# Altium schematic symbol library RF_GSM.SchLib: 23 symbols
Pins are listed as number, name and electrical type; pins without a type are passive.

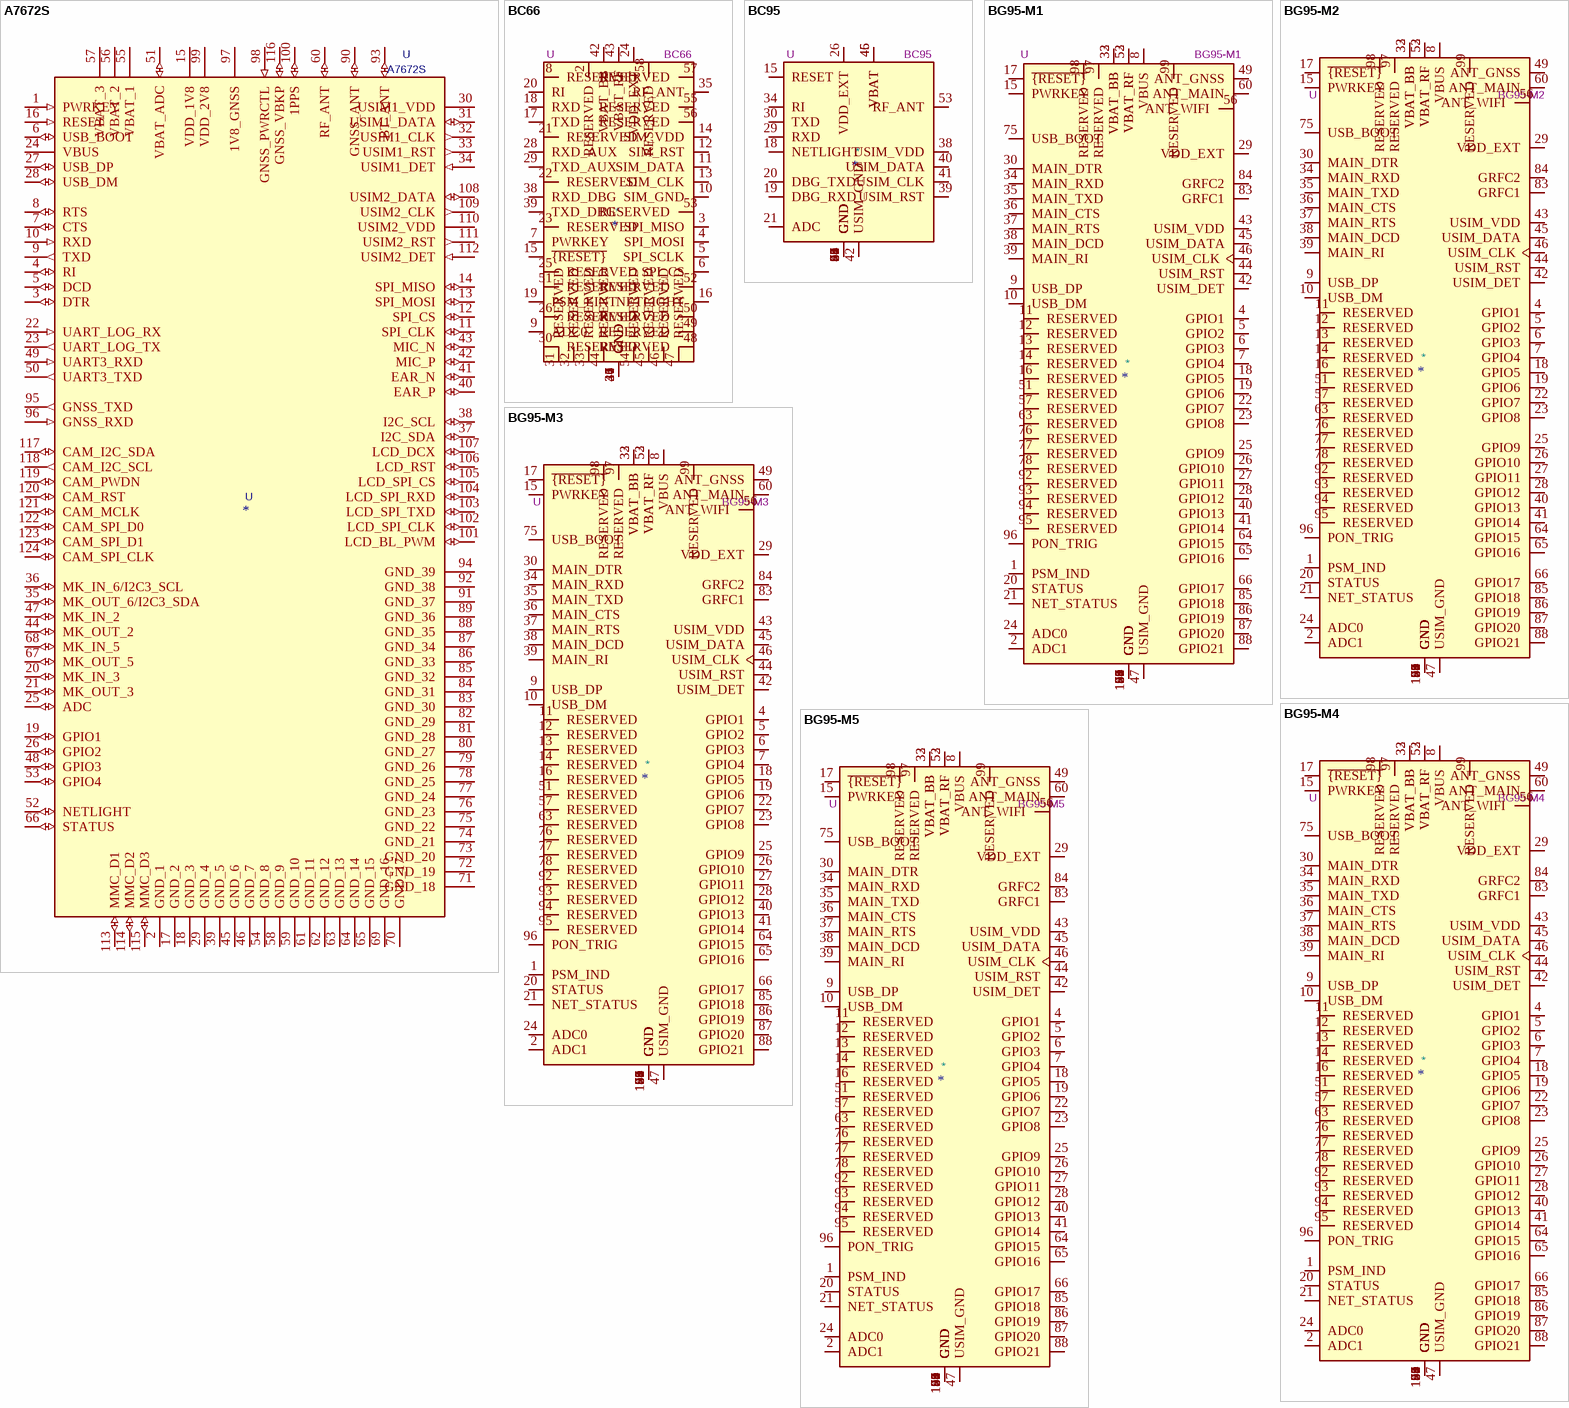
[diagram p0: symbols A7672S to BG95-M5]

## A7672S
designator U  value A7672S  Reference: U
Footprint: A7672S:A7672S
footprint SIMCOM_A7672S
pins: 1 PWRKEY (in), 2 GND_1 (power), 3 DTR (io), 4 RI (io), 5 DCD (io), 6 USB_BOOT (io), 7 CTS (io), 8 RTS (io), 9 TXD (out), 10 RXD (in), 11 SPI_CLK (io), 12 SPI_CS (io), 13 SPI_MOSI (io), 14 SPI_MISO (io), 15 VDD_1V8 (power), 16 RESET (in), 17 GND_2 (power), 18 GND_3 (power), 19 GPIO1 (io), 20 MK_IN_3 (io), 21 MK_OUT_3 (io), 22 UART_LOG_RX (in), 23 UART_LOG_TX (out), 24 VBUS (power), 25 ADC (io), 26 GPIO2 (io), 27 USB_DP (io), 28 USB_DM (io), 29 GND_4 (power), 30 USIM1_VDD (power), 31 USIM1_DATA (io), 32 USIM1_CLK (out), 33 USIM1_RST (out), 34 USIM1_DET (in), 35 MK_OUT_6/I2C3_SDA (io), 36 MK_IN_6/I2C3_SCL (io), 37 I2C_SDA (io), 38 I2C_SCL (io), 39 GND_5 (power), 40 EAR_P (io), 41 EAR_N (io), 42 MIC_P (io), 43 MIC_N (io), 44 MK_OUT_2 (io), 45 GND_6 (power), 46 GND_7 (power), 47 MK_IN_2 (io), 48 GPIO3 (io), 49 UART3_RXD (in), 50 UART3_TXD (out), 51 VBAT_ADC (io), 52 NETLIGHT (io), 53 GPIO4 (io), 54 GND_8 (power), 55 VBAT_1 (power), 56 VBAT_2 (power), 57 VBAT_3 (power), 58 GND_9 (power), 59 GND_10 (power), 60 RF_ANT (io), 61 GND_11 (power), 62 GND_12 (power), 63 GND_13 (power), 64 GND_14 (power), 65 GND_15 (power), 66 STATUS (io), 67 MK_OUT_5 (io), 68 MK_IN_5 (io), 69 GND_16 (power), 70 GND_17 (power), 71 GND_18 (power), 72 GND_19 (power), 73 GND_20 (power), 74 GND_21 (power), 75 GND_22 (power), 76 GND_23 (power), 77 GND_24 (power), 78 GND_25 (power), 79 GND_26 (power), 80 GND_27 (power), 81 GND_28 (power), 82 GND_29 (power), 83 GND_30 (power), 84 GND_31 (power), 85 GND_32 (power), 86 GND_33 (power), 87 GND_34 (power), 88 GND_35 (power), 89 GND_36 (power), 90 GNSS_ANT (io), 91 GND_37 (power), 92 GND_38 (power), 93 BT_ANT (io), 94 GND_39 (power), 95 GNSS_TXD (out), 96 GNSS_RXD (in), 97 1V8_GNSS (power), 98 GNSS_PWRCTL (in), 99 VDD_2V8 (power), 100 1PPS (io), 101 LCD_BL_PWM (io), 102 LCD_SPI_CLK (io), 103 LCD_SPI_TXD (io), 104 LCD_SPI_RXD (io), 105 LCD_SPI_CS (io), 106 LCD_RST (io), 107 LCD_DCX (io), 108 USIM2_DATA (io), 109 USIM2_CLK (out), 110 USIM2_VDD (power), 111 USIM2_RST (out), 112 USIM2_DET (in), 113 MMC_D1 (io), 114 MMC_D2 (io), 115 MMC_D3 (io), 116 GNSS_VBKP (io), 117 CAM_I2C_SDA (io), 118 CAM_I2C_SCL (out), 119 CAM_PWDN (io), 120 CAM_RST (io), 121 CAM_MCLK (io), 122 CAM_SPI_D0 (io), 123 CAM_SPI_D1 (io), 124 CAM_SPI_CLK (io)

## BC66
designator *  value BC66  Reference: U
Quectel NB-IoT Global, AT Command Set; ki_keywords: NB-IoT Data SMS; ki_fp_filters: Quectel*BC66*; Footprint: RF_GSM:Quectel_BC66; Datasheet: https://www.quectel.com/UploadImage/Downlad/Quectel_BC66_Hardware_Design_V1.1.pdf; Description_: Quectel NB-IoT Global, AT Command Set
pins: 1 GND, 2 RESERVED, 3 SPI_MISO, 4 SPI_MOSI, 5 SPI_SCLK, 6 SPI_CS, 7 PWRKEY, 8 RESERVED, 9 ADC0, 10 SIM_GND, 11 SIM_DATA, 12 SIM_RST, 13 SIM_CLK, 14 SIM_VDD, 15 ~{{RESET}}, 16 NETLIGHT, 17 TXD, 18 RXD, 19 PSM_EINT, 20 RI, 21 RESERVED, 22 RESERVED, 23 RESERVED, 24 VDD_EXT, 25 RESERVED, 26 RESERVED, 27 GND, 28 RXD_AUX, 29 TXD_AUX, 30 RESERVED, 31 RESERVED, 32 RESERVED, 33 RESERVED, 34 GND, 35 RF_ANT, 36 GND, 37 GND, 38 RXD_DBG, 39 TXD_DBG, 40 GND, 41 GND, 42 VBAT_BB, 43 VBAT_RF, 44 RESERVED, 45 RESERVED, 46 RESERVED, 47 RESERVED, 48 RESERVED, 49 RESERVED, 50 RESERVED, 51 RESERVED, 52 RESERVED, 53 RESERVED, 54 RESERVED, 55 RESERVED, 56 RESERVED, 57 RESERVED, 58 RESERVED

## BC95
designator *  value BC95  Reference: U
NB-IoT, GSM Quad-Band Communication Module, GPRS, Audio Engine, AT Command Set; ki_keywords: NB-IoT GSM GPRS Quad-Band SMS; ki_fp_filters: Quectel?BC95*; Footprint: RF_GSM:Quectel_BC95; Datasheet: https://www.quectel.com/UploadImage/Downlad/Quectel_BC95_Hardware_Design_V1.3.pdf; Description_: NB-IoT, GSM Quad-Band Communication Module, GPRS, Audio Engine, AT Command Set
pins: 2 GND, 15 RESET, 18 NETLIGHT, 19 DBG_RXD, 20 DBG_TXD, 21 ADC, 26 VDD_EXT, 29 RXD, 30 TXD, 34 RI, 38 USIM_VDD, 39 USIM_RST, 40 USIM_DATA, 41 USIM_CLK, 42 USIM_GND, 43 GND, 45 VBAT, 46 VBAT, 47 GND, 48 GND, 51 GND, 52 GND, 53 RF_ANT, 54 GND, 59 GND, 60 GND, 61 GND, 62 GND, 63 GND, 64 GND, 65 GND, 66 GND, 71 GND, 72 GND, 73 GND, 74 GND, 81 GND, 82 GND, 83 GND, 92 GND, 93 GND, 94 GND

## BG95-M1
designator *  value BG95-M1  Reference: U
NB-IoT, Cat M1 Communication Module, AT Command Set; ki_keywords: NB-IoT Cat M1 GNSS; ki_fp_filters: Quectel?BG95*; Footprint: RF_GSM:Quectel_BG95; Datasheet: https://images.quectel.com/python/sites/2/2023/05/Quectel_BG95_Series_QuecOpen_Hardware_Design_V1.3.pdf; Description_: NB-IoT, Cat M1 Communication Module, AT Command Set
pins: 1 PSM_IND, 2 ADC1, 3 GND, 4 GPIO1, 5 GPIO2, 6 GPIO3, 7 GPIO4, 8 VBUS, 9 USB_DP, 10 USB_DM, 11 RESERVED, 12 RESERVED, 13 RESERVED, 14 RESERVED, 15 PWRKEY, 16 RESERVED, 17 ~{{RESET}}, 18 GPIO5, 19 GPIO6, 20 STATUS, 21 NET_STATUS, 22 GPIO7, 23 GPIO8, 24 ADC0, 25 GPIO9, 26 GPIO10, 27 GPIO11, 28 GPIO12, 29 VDD_EXT, 30 MAIN_DTR, 31 GND, 32 VBAT_BB, 33 VBAT_BB, 34 MAIN_RXD, 35 MAIN_TXD, 36 MAIN_CTS, 37 MAIN_RTS, 38 MAIN_DCD, 39 MAIN_RI, 40 GPIO13, 41 GPIO14, 42 USIM_DET, 43 USIM_VDD, 44 USIM_RST, 45 USIM_DATA, 46 USIM_CLK, 47 USIM_GND, 48 GND, 49 ANT_GNSS, 50 GND, 51 RESERVED, 52 VBAT_RF, 53 VBAT_RF, 54 GND, 55 GND, 56 ANT_WIFI, 57 RESERVED, 58 GND, 59 GND, 60 ANT_MAIN, 61 GND, 62 GND, 63 RESERVED, 64 GPIO15, 65 GPIO16, 66 GPIO17, 67 GND, 68 GND, 69 GND, 70 GND, 71 GND, 72 GND, 73 GND, 74 GND, 75 USB_BOOT, 76 RESERVED, 77 RESERVED, 78 RESERVED, 79 GND, 80 GND, 81 GND, 82 GND, 83 GRFC1, 84 GRFC2, 85 GPIO18, 86 GPIO19, 87 GPIO20, 88 GPIO21, 89 GND, 90 GND, 91 GND, 92 RESERVED, 93 RESERVED, 94 RESERVED, 95 RESERVED, 96 PON_TRIG, 97 RESERVED, 98 RESERVED, 99 RESERVED, 100 GND, 101 GND, 102 GND

## BG95-M2
designator *  value BG95-M2  Reference: U
NB-IoT, Cat M1 Cat NB2 Communication Module, AT Command Set; ki_keywords: NB-IoT Cat M1 NB2 GNSS; ki_fp_filters: Quectel?BG95*; Footprint: RF_GSM:Quectel_BG95; Datasheet: https://images.quectel.com/python/sites/2/2023/05/Quectel_BG95_Series_QuecOpen_Hardware_Design_V1.3.pdf; Description_: NB-IoT, Cat M1 Cat NB2 Communication Module, AT Command Set
pins: 1 PSM_IND, 2 ADC1, 3 GND, 4 GPIO1, 5 GPIO2, 6 GPIO3, 7 GPIO4, 8 VBUS, 9 USB_DP, 10 USB_DM, 11 RESERVED, 12 RESERVED, 13 RESERVED, 14 RESERVED, 15 PWRKEY, 16 RESERVED, 17 ~{{RESET}}, 18 GPIO5, 19 GPIO6, 20 STATUS, 21 NET_STATUS, 22 GPIO7, 23 GPIO8, 24 ADC0, 25 GPIO9, 26 GPIO10, 27 GPIO11, 28 GPIO12, 29 VDD_EXT, 30 MAIN_DTR, 31 GND, 32 VBAT_BB, 33 VBAT_BB, 34 MAIN_RXD, 35 MAIN_TXD, 36 MAIN_CTS, 37 MAIN_RTS, 38 MAIN_DCD, 39 MAIN_RI, 40 GPIO13, 41 GPIO14, 42 USIM_DET, 43 USIM_VDD, 44 USIM_RST, 45 USIM_DATA, 46 USIM_CLK, 47 USIM_GND, 48 GND, 49 ANT_GNSS, 50 GND, 51 RESERVED, 52 VBAT_RF, 53 VBAT_RF, 54 GND, 55 GND, 56 ANT_WIFI, 57 RESERVED, 58 GND, 59 GND, 60 ANT_MAIN, 61 GND, 62 GND, 63 RESERVED, 64 GPIO15, 65 GPIO16, 66 GPIO17, 67 GND, 68 GND, 69 GND, 70 GND, 71 GND, 72 GND, 73 GND, 74 GND, 75 USB_BOOT, 76 RESERVED, 77 RESERVED, 78 RESERVED, 79 GND, 80 GND, 81 GND, 82 GND, 83 GRFC1, 84 GRFC2, 85 GPIO18, 86 GPIO19, 87 GPIO20, 88 GPIO21, 89 GND, 90 GND, 91 GND, 92 RESERVED, 93 RESERVED, 94 RESERVED, 95 RESERVED, 96 PON_TRIG, 97 RESERVED, 98 RESERVED, 99 RESERVED, 100 GND, 101 GND, 102 GND

## BG95-M3
designator *  value BG95-M3  Reference: U
NB-IoT, Cat M1 Cat NB2 EGPRS Communication Module, AT Command Set; ki_keywords: NB-IoT Cat M1 NB2 EGPRS GNSS; ki_fp_filters: Quectel?BG95*; Footprint: RF_GSM:Quectel_BG95; Datasheet: https://images.quectel.com/python/sites/2/2023/05/Quectel_BG95_Series_QuecOpen_Hardware_Design_V1.3.pdf; Description_: NB-IoT, Cat M1 Cat NB2 EGPRS Communication Module, AT Command Set
pins: 1 PSM_IND, 2 ADC1, 3 GND, 4 GPIO1, 5 GPIO2, 6 GPIO3, 7 GPIO4, 8 VBUS, 9 USB_DP, 10 USB_DM, 11 RESERVED, 12 RESERVED, 13 RESERVED, 14 RESERVED, 15 PWRKEY, 16 RESERVED, 17 ~{{RESET}}, 18 GPIO5, 19 GPIO6, 20 STATUS, 21 NET_STATUS, 22 GPIO7, 23 GPIO8, 24 ADC0, 25 GPIO9, 26 GPIO10, 27 GPIO11, 28 GPIO12, 29 VDD_EXT, 30 MAIN_DTR, 31 GND, 32 VBAT_BB, 33 VBAT_BB, 34 MAIN_RXD, 35 MAIN_TXD, 36 MAIN_CTS, 37 MAIN_RTS, 38 MAIN_DCD, 39 MAIN_RI, 40 GPIO13, 41 GPIO14, 42 USIM_DET, 43 USIM_VDD, 44 USIM_RST, 45 USIM_DATA, 46 USIM_CLK, 47 USIM_GND, 48 GND, 49 ANT_GNSS, 50 GND, 51 RESERVED, 52 VBAT_RF, 53 VBAT_RF, 54 GND, 55 GND, 56 ANT_WIFI, 57 RESERVED, 58 GND, 59 GND, 60 ANT_MAIN, 61 GND, 62 GND, 63 RESERVED, 64 GPIO15, 65 GPIO16, 66 GPIO17, 67 GND, 68 GND, 69 GND, 70 GND, 71 GND, 72 GND, 73 GND, 74 GND, 75 USB_BOOT, 76 RESERVED, 77 RESERVED, 78 RESERVED, 79 GND, 80 GND, 81 GND, 82 GND, 83 GRFC1, 84 GRFC2, 85 GPIO18, 86 GPIO19, 87 GPIO20, 88 GPIO21, 89 GND, 90 GND, 91 GND, 92 RESERVED, 93 RESERVED, 94 RESERVED, 95 RESERVED, 96 PON_TRIG, 97 RESERVED, 98 RESERVED, 99 RESERVED, 100 GND, 101 GND, 102 GND

## BG95-M4
designator *  value BG95-M4  Reference: U
NB-IoT, Cat M1  Cat NB2 Communication Module, AT Command Set; ki_keywords: NB-IoT Cat M1 NB2 GNSS; ki_fp_filters: Quectel?BG95*; Footprint: RF_GSM:Quectel_BG95; Datasheet: https://images.quectel.com/python/sites/2/2023/05/Quectel_BG95_Series_QuecOpen_Hardware_Design_V1.3.pdf; Description_: NB-IoT, Cat M1  Cat NB2 Communication Module, AT Command Set
pins: 1 PSM_IND, 2 ADC1, 3 GND, 4 GPIO1, 5 GPIO2, 6 GPIO3, 7 GPIO4, 8 VBUS, 9 USB_DP, 10 USB_DM, 11 RESERVED, 12 RESERVED, 13 RESERVED, 14 RESERVED, 15 PWRKEY, 16 RESERVED, 17 ~{{RESET}}, 18 GPIO5, 19 GPIO6, 20 STATUS, 21 NET_STATUS, 22 GPIO7, 23 GPIO8, 24 ADC0, 25 GPIO9, 26 GPIO10, 27 GPIO11, 28 GPIO12, 29 VDD_EXT, 30 MAIN_DTR, 31 GND, 32 VBAT_BB, 33 VBAT_BB, 34 MAIN_RXD, 35 MAIN_TXD, 36 MAIN_CTS, 37 MAIN_RTS, 38 MAIN_DCD, 39 MAIN_RI, 40 GPIO13, 41 GPIO14, 42 USIM_DET, 43 USIM_VDD, 44 USIM_RST, 45 USIM_DATA, 46 USIM_CLK, 47 USIM_GND, 48 GND, 49 ANT_GNSS, 50 GND, 51 RESERVED, 52 VBAT_RF, 53 VBAT_RF, 54 GND, 55 GND, 56 ANT_WIFI, 57 RESERVED, 58 GND, 59 GND, 60 ANT_MAIN, 61 GND, 62 GND, 63 RESERVED, 64 GPIO15, 65 GPIO16, 66 GPIO17, 67 GND, 68 GND, 69 GND, 70 GND, 71 GND, 72 GND, 73 GND, 74 GND, 75 USB_BOOT, 76 RESERVED, 77 RESERVED, 78 RESERVED, 79 GND, 80 GND, 81 GND, 82 GND, 83 GRFC1, 84 GRFC2, 85 GPIO18, 86 GPIO19, 87 GPIO20, 88 GPIO21, 89 GND, 90 GND, 91 GND, 92 RESERVED, 93 RESERVED, 94 RESERVED, 95 RESERVED, 96 PON_TRIG, 97 RESERVED, 98 RESERVED, 99 RESERVED, 100 GND, 101 GND, 102 GND

## BG95-M5
designator *  value BG95-M5  Reference: U
NB-IoT, Cat M1 NB2 EGPRS Communication Module, AT Command Set; ki_keywords: NB-IoT Cat M1 NB2 EGPRS GNSS; ki_fp_filters: Quectel?BG95*; Footprint: RF_GSM:Quectel_BG95; Datasheet: https://images.quectel.com/python/sites/2/2023/05/Quectel_BG95_Series_QuecOpen_Hardware_Design_V1.3.pdf; Description_: NB-IoT, Cat M1 NB2 EGPRS Communication Module, AT Command Set
pins: 1 PSM_IND, 2 ADC1, 3 GND, 4 GPIO1, 5 GPIO2, 6 GPIO3, 7 GPIO4, 8 VBUS, 9 USB_DP, 10 USB_DM, 11 RESERVED, 12 RESERVED, 13 RESERVED, 14 RESERVED, 15 PWRKEY, 16 RESERVED, 17 ~{{RESET}}, 18 GPIO5, 19 GPIO6, 20 STATUS, 21 NET_STATUS, 22 GPIO7, 23 GPIO8, 24 ADC0, 25 GPIO9, 26 GPIO10, 27 GPIO11, 28 GPIO12, 29 VDD_EXT, 30 MAIN_DTR, 31 GND, 32 VBAT_BB, 33 VBAT_BB, 34 MAIN_RXD, 35 MAIN_TXD, 36 MAIN_CTS, 37 MAIN_RTS, 38 MAIN_DCD, 39 MAIN_RI, 40 GPIO13, 41 GPIO14, 42 USIM_DET, 43 USIM_VDD, 44 USIM_RST, 45 USIM_DATA, 46 USIM_CLK, 47 USIM_GND, 48 GND, 49 ANT_GNSS, 50 GND, 51 RESERVED, 52 VBAT_RF, 53 VBAT_RF, 54 GND, 55 GND, 56 ANT_WIFI, 57 RESERVED, 58 GND, 59 GND, 60 ANT_MAIN, 61 GND, 62 GND, 63 RESERVED, 64 GPIO15, 65 GPIO16, 66 GPIO17, 67 GND, 68 GND, 69 GND, 70 GND, 71 GND, 72 GND, 73 GND, 74 GND, 75 USB_BOOT, 76 RESERVED, 77 RESERVED, 78 RESERVED, 79 GND, 80 GND, 81 GND, 82 GND, 83 GRFC1, 84 GRFC2, 85 GPIO18, 86 GPIO19, 87 GPIO20, 88 GPIO21, 89 GND, 90 GND, 91 GND, 92 RESERVED, 93 RESERVED, 94 RESERVED, 95 RESERVED, 96 PON_TRIG, 97 RESERVED, 98 RESERVED, 99 RESERVED, 100 GND, 101 GND, 102 GND

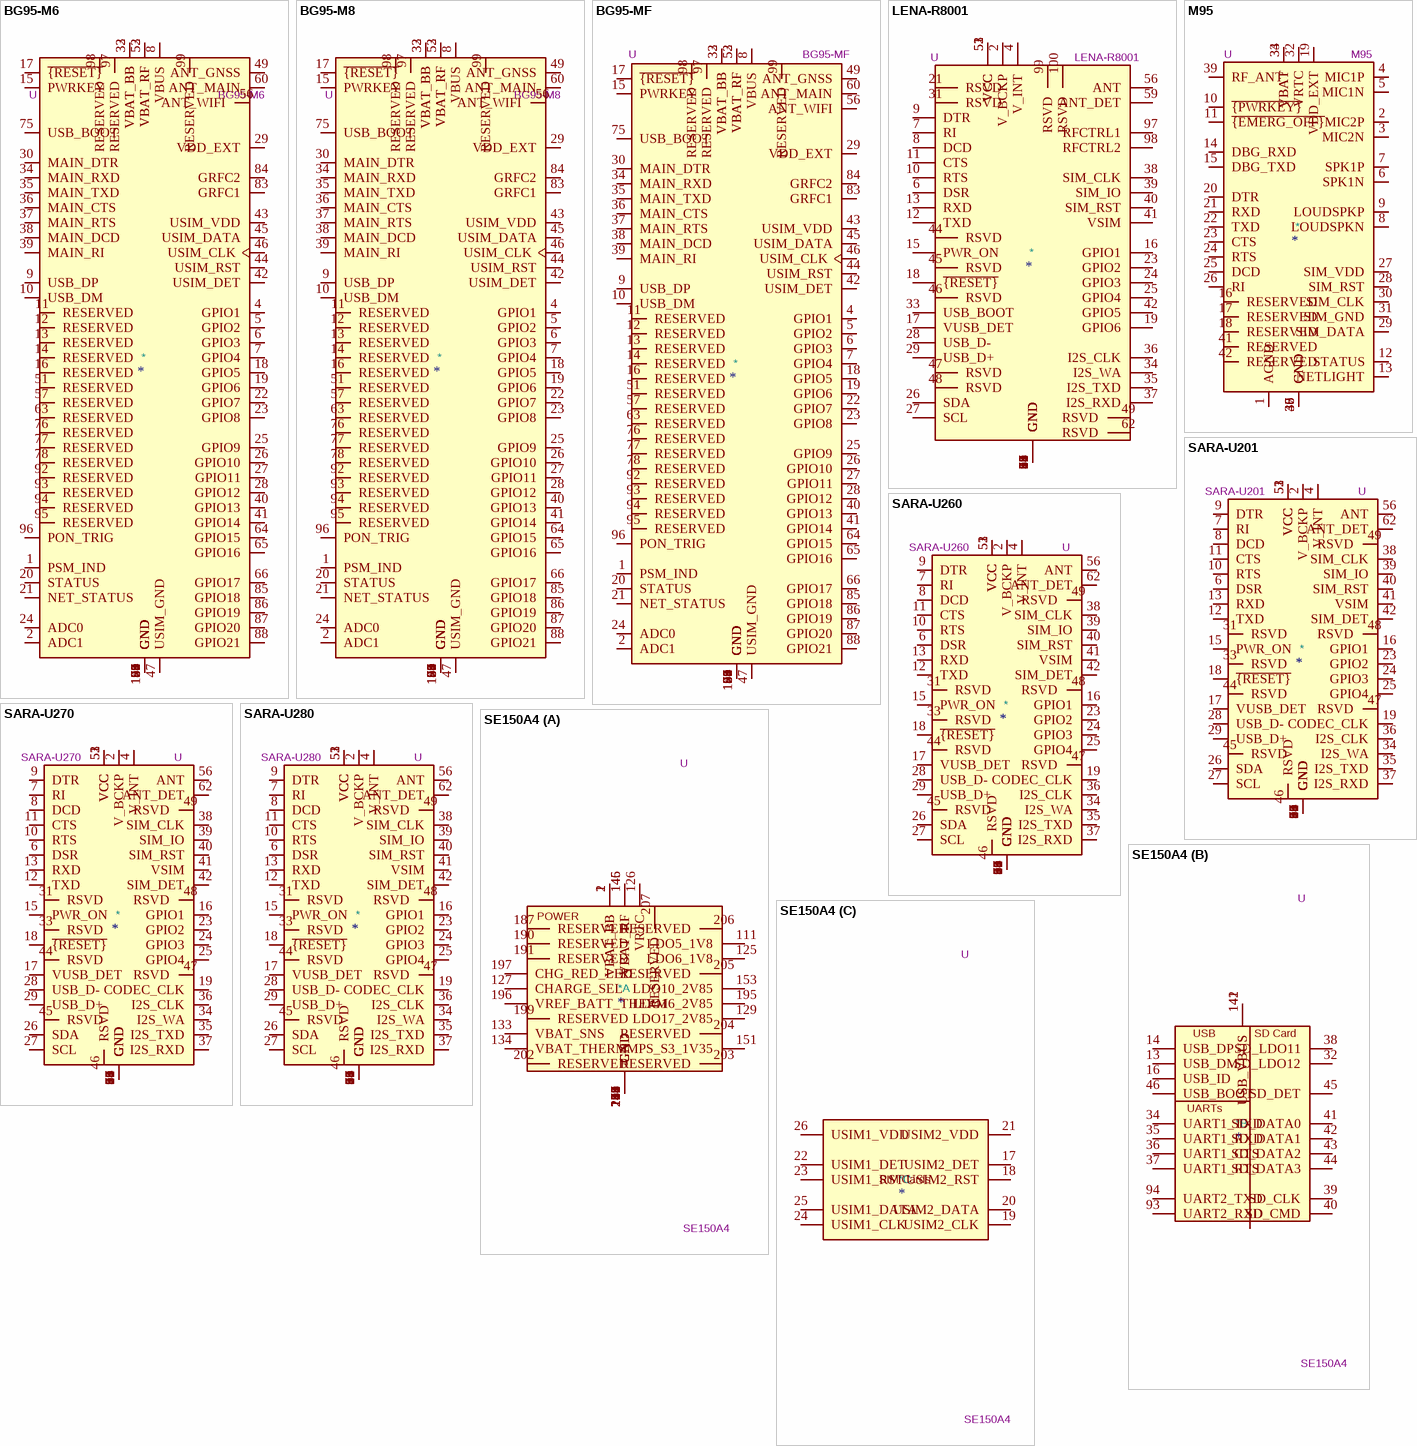
[diagram p1: symbols BG95-M6 to SE150A4]

## BG95-M6
designator *  value BG95-M6  Reference: U
NB-IoT, Cat M1 Cat NB2 Communication Module, AT Command Set; ki_keywords: NB-IoT Cat M1 NB2 GNSS; ki_fp_filters: Quectel?BG95*; Footprint: RF_GSM:Quectel_BG95; Datasheet: https://images.quectel.com/python/sites/2/2023/05/Quectel_BG95_Series_QuecOpen_Hardware_Design_V1.3.pdf; Description_: NB-IoT, Cat M1 Cat NB2 Communication Module, AT Command Set
pins: 1 PSM_IND, 2 ADC1, 3 GND, 4 GPIO1, 5 GPIO2, 6 GPIO3, 7 GPIO4, 8 VBUS, 9 USB_DP, 10 USB_DM, 11 RESERVED, 12 RESERVED, 13 RESERVED, 14 RESERVED, 15 PWRKEY, 16 RESERVED, 17 ~{{RESET}}, 18 GPIO5, 19 GPIO6, 20 STATUS, 21 NET_STATUS, 22 GPIO7, 23 GPIO8, 24 ADC0, 25 GPIO9, 26 GPIO10, 27 GPIO11, 28 GPIO12, 29 VDD_EXT, 30 MAIN_DTR, 31 GND, 32 VBAT_BB, 33 VBAT_BB, 34 MAIN_RXD, 35 MAIN_TXD, 36 MAIN_CTS, 37 MAIN_RTS, 38 MAIN_DCD, 39 MAIN_RI, 40 GPIO13, 41 GPIO14, 42 USIM_DET, 43 USIM_VDD, 44 USIM_RST, 45 USIM_DATA, 46 USIM_CLK, 47 USIM_GND, 48 GND, 49 ANT_GNSS, 50 GND, 51 RESERVED, 52 VBAT_RF, 53 VBAT_RF, 54 GND, 55 GND, 56 ANT_WIFI, 57 RESERVED, 58 GND, 59 GND, 60 ANT_MAIN, 61 GND, 62 GND, 63 RESERVED, 64 GPIO15, 65 GPIO16, 66 GPIO17, 67 GND, 68 GND, 69 GND, 70 GND, 71 GND, 72 GND, 73 GND, 74 GND, 75 USB_BOOT, 76 RESERVED, 77 RESERVED, 78 RESERVED, 79 GND, 80 GND, 81 GND, 82 GND, 83 GRFC1, 84 GRFC2, 85 GPIO18, 86 GPIO19, 87 GPIO20, 88 GPIO21, 89 GND, 90 GND, 91 GND, 92 RESERVED, 93 RESERVED, 94 RESERVED, 95 RESERVED, 96 PON_TRIG, 97 RESERVED, 98 RESERVED, 99 RESERVED, 100 GND, 101 GND, 102 GND

## BG95-M8
designator *  value BG95-M8  Reference: U
NB-IoT, Cat M1 Cat NB2 EGPRS Communication Module, AT Command Set; ki_keywords: NB-IoT Cat M1 NB2 EGPRS GNSS; ki_fp_filters: Quectel?BG95*; Footprint: RF_GSM:Quectel_BG95; Datasheet: https://images.quectel.com/python/sites/2/2023/05/Quectel_BG95_Series_QuecOpen_Hardware_Design_V1.3.pdf; Description_: NB-IoT, Cat M1 Cat NB2 EGPRS Communication Module, AT Command Set
pins: 1 PSM_IND, 2 ADC1, 3 GND, 4 GPIO1, 5 GPIO2, 6 GPIO3, 7 GPIO4, 8 VBUS, 9 USB_DP, 10 USB_DM, 11 RESERVED, 12 RESERVED, 13 RESERVED, 14 RESERVED, 15 PWRKEY, 16 RESERVED, 17 ~{{RESET}}, 18 GPIO5, 19 GPIO6, 20 STATUS, 21 NET_STATUS, 22 GPIO7, 23 GPIO8, 24 ADC0, 25 GPIO9, 26 GPIO10, 27 GPIO11, 28 GPIO12, 29 VDD_EXT, 30 MAIN_DTR, 31 GND, 32 VBAT_BB, 33 VBAT_BB, 34 MAIN_RXD, 35 MAIN_TXD, 36 MAIN_CTS, 37 MAIN_RTS, 38 MAIN_DCD, 39 MAIN_RI, 40 GPIO13, 41 GPIO14, 42 USIM_DET, 43 USIM_VDD, 44 USIM_RST, 45 USIM_DATA, 46 USIM_CLK, 47 USIM_GND, 48 GND, 49 ANT_GNSS, 50 GND, 51 RESERVED, 52 VBAT_RF, 53 VBAT_RF, 54 GND, 55 GND, 56 ANT_WIFI, 57 RESERVED, 58 GND, 59 GND, 60 ANT_MAIN, 61 GND, 62 GND, 63 RESERVED, 64 GPIO15, 65 GPIO16, 66 GPIO17, 67 GND, 68 GND, 69 GND, 70 GND, 71 GND, 72 GND, 73 GND, 74 GND, 75 USB_BOOT, 76 RESERVED, 77 RESERVED, 78 RESERVED, 79 GND, 80 GND, 81 GND, 82 GND, 83 GRFC1, 84 GRFC2, 85 GPIO18, 86 GPIO19, 87 GPIO20, 88 GPIO21, 89 GND, 90 GND, 91 GND, 92 RESERVED, 93 RESERVED, 94 RESERVED, 95 RESERVED, 96 PON_TRIG, 97 RESERVED, 98 RESERVED, 99 RESERVED, 100 GND, 101 GND, 102 GND

## BG95-MF
designator *  value BG95-MF  Reference: U
NB-IoT, Cat M1 Cat NB2 Wifi Communication Module, AT Command Set; ki_keywords: NB-IoT Cat M1 NB2 Wifi GNSS; ki_fp_filters: Quectel?BG95*; Footprint: RF_GSM:Quectel_BG95; Datasheet: https://images.quectel.com/python/sites/2/2023/05/Quectel_BG95_Series_QuecOpen_Hardware_Design_V1.3.pdf; Description_: NB-IoT, Cat M1 Cat NB2 Wifi Communication Module, AT Command Set
pins: 1 PSM_IND, 2 ADC1, 3 GND, 4 GPIO1, 5 GPIO2, 6 GPIO3, 7 GPIO4, 8 VBUS, 9 USB_DP, 10 USB_DM, 11 RESERVED, 12 RESERVED, 13 RESERVED, 14 RESERVED, 15 PWRKEY, 16 RESERVED, 17 ~{{RESET}}, 18 GPIO5, 19 GPIO6, 20 STATUS, 21 NET_STATUS, 22 GPIO7, 23 GPIO8, 24 ADC0, 25 GPIO9, 26 GPIO10, 27 GPIO11, 28 GPIO12, 29 VDD_EXT, 30 MAIN_DTR, 31 GND, 32 VBAT_BB, 33 VBAT_BB, 34 MAIN_RXD, 35 MAIN_TXD, 36 MAIN_CTS, 37 MAIN_RTS, 38 MAIN_DCD, 39 MAIN_RI, 40 GPIO13, 41 GPIO14, 42 USIM_DET, 43 USIM_VDD, 44 USIM_RST, 45 USIM_DATA, 46 USIM_CLK, 47 USIM_GND, 48 GND, 49 ANT_GNSS, 50 GND, 51 RESERVED, 52 VBAT_RF, 53 VBAT_RF, 54 GND, 55 GND, 56 ANT_WIFI, 57 RESERVED, 58 GND, 59 GND, 60 ANT_MAIN, 61 GND, 62 GND, 63 RESERVED, 64 GPIO15, 65 GPIO16, 66 GPIO17, 67 GND, 68 GND, 69 GND, 70 GND, 71 GND, 72 GND, 73 GND, 74 GND, 75 USB_BOOT, 76 RESERVED, 77 RESERVED, 78 RESERVED, 79 GND, 80 GND, 81 GND, 82 GND, 83 GRFC1, 84 GRFC2, 85 GPIO18, 86 GPIO19, 87 GPIO20, 88 GPIO21, 89 GND, 90 GND, 91 GND, 92 RESERVED, 93 RESERVED, 94 RESERVED, 95 RESERVED, 96 PON_TRIG, 97 RESERVED, 98 RESERVED, 99 RESERVED, 100 GND, 101 GND, 102 GND

## LENA-R8001
designator *  value LENA-R8001  Reference: U
Ublox HSPA GSM Quad-Band Communication Module, AT Command Set, AT Command Set, Worldwide , LGA-100; ki_keywords: GSM LTE 2G 4G; ki_fp_filters: ublox*LENA?R8*; Footprint: RF_GSM:ublox_LENA-R8_LGA-100; Datasheet: https://content.u-blox.com/sites/default/files/documents/LENA-R8_SysIntegrManual_UBX-22015376.pdf; Description_: Ublox HSPA GSM Quad-Band Communication Module, AT Command Set, AT Command Set, Worldwide , LGA-100
pins: 1 GND, 2 V_BCKP, 3 GND, 4 V_INT, 5 GND, 6 DSR, 7 RI, 8 DCD, 9 DTR, 10 RTS, 11 CTS, 12 TXD, 13 RXD, 14 GND, 15 PWR_ON, 16 GPIO1, 17 VUSB_DET, 18 ~{{RESET}}, 19 GPIO6, 20 GND, 21 RSVD, 22 GND, 23 GPIO2, 24 GPIO3, 25 GPIO4, 26 SDA, 27 SCL, 28 USB_D-, 29 USB_D+, 30 GND, 31 RSVD, 32 GND, 33 USB_BOOT, 34 I2S_WA, 35 I2S_TXD, 36 I2S_CLK, 37 I2S_RXD, 38 SIM_CLK, 39 SIM_IO, 40 SIM_RST, 41 VSIM, 42 GPIO5, 43 GND, 44 RSVD, 45 RSVD, 46 RSVD, 47 RSVD, 48 RSVD, 49 RSVD, 50 GND, 51 VCC, 52 VCC, 53 VCC, 54 GND, 55 GND, 56 ANT, 57 GND, 58 GND, 59 ANT_DET, 60 GND, 61 GND, 62 RSVD, 63 GND, 64 GND, 65 GND, 66 GND, 67 GND, 68 GND, 69 GND, 70 GND, 71 GND, 72 GND, 73 GND, 74 GND, 75 GND, 76 GND, 77 GND, 78 GND, 79 GND, 80 GND, 81 GND, 82 GND, 83 GND, 84 GND, 85 GND, 86 GND, 87 GND, 88 GND, 89 GND, 90 GND, 91 GND, 92 GND, 93 GND, 94 GND, 95 GND, 96 GND, 97 RFCTRL1, 98 RFCTRL2, 99 RSVD, 100 RSVD

## M95
designator *  value M95  Reference: U
Quectel quad-band GSM/GPRS module in LCC package; ki_keywords: GSM GPRS AT SMS voice TCP/IP; ki_fp_filters: Quectel*M95*; Footprint: RF_GSM:Quectel_M95; Datasheet: https://www.quectel.com/UploadImage/Downlad/M95_Hardware_Design_V1.3.pdf; Description_: Quectel quad-band GSM/GPRS module in LCC package
pins: 1 AGND, 2 MIC2P, 3 MIC2N, 4 MIC1P, 5 MIC1N, 6 SPK1N, 7 SPK1P, 8 LOUDSPKN, 9 LOUDSPKP, 10 ~{{PWRKEY}}, 11 ~{{EMERG_OFF}}, 12 STATUS, 13 NETLIGHT, 14 DBG_RXD, 15 DBG_TXD, 16 RESERVED, 17 RESERVED, 18 RESERVED, 19 VDD_EXT, 20 DTR, 21 RXD, 22 TXD, 23 CTS, 24 RTS, 25 DCD, 26 RI, 27 SIM_VDD, 28 SIM_RST, 29 SIM_DATA, 30 SIM_CLK, 31 SIM_GND, 32 VRTC, 33 VBAT, 34 VBAT, 35 GND, 36 GND, 37 GND, 38 GND, 39 RF_ANT, 40 GND, 41 RESERVED, 42 RESERVED

## SARA-U201
designator *  value SARA-U201  Reference: U
Ublox HSPA GSM Quad-Band Communication Module, AT Command Set, AT Command Set, Worldwide , LGA-96; ki_keywords: GSM HSPA 2G 3G; ki_fp_filters: ublox*SARA*; Footprint: RF_GSM:ublox_SARA_LGA-96; Datasheet: https://www.u-blox.com/sites/default/files/SARA-U2_DataSheet_(UBX-13005287).pdf; Description_: Ublox HSPA GSM Quad-Band Communication Module, AT Command Set, AT Command Set, Worldwide , LGA-96
pins: 1 GND, 2 V_BCKP, 3 GND, 4 V_INT, 5 GND, 6 DSR, 7 RI, 8 DCD, 9 DTR, 10 RTS, 11 CTS, 12 TXD, 13 RXD, 14 GND, 15 PWR_ON, 16 GPIO1, 17 VUSB_DET, 18 ~{{RESET}}, 19 CODEC_CLK, 20 GND, 21 GND, 22 GND, 23 GPIO2, 24 GPIO3, 25 GPIO4, 26 SDA, 27 SCL, 28 USB_D-, 29 USB_D+, 30 GND, 31 RSVD, 32 GND, 33 RSVD, 34 I2S_WA, 35 I2S_TXD, 36 I2S_CLK, 37 I2S_RXD, 38 SIM_CLK, 39 SIM_IO, 40 SIM_RST, 41 VSIM, 42 SIM_DET, 43 GND, 44 RSVD, 45 RSVD, 46 RSVD, 47 RSVD, 48 RSVD, 49 RSVD, 50 GND, 51 VCC, 52 VCC, 53 VCC, 54 GND, 55 GND, 56 ANT, 57 GND, 58 GND, 59 GND, 60 GND, 61 GND, 62 ANT_DET, 63 GND, 64 GND, 65 GND, 66 GND, 67 GND, 68 GND, 69 GND, 70 GND, 71 GND, 72 GND, 73 GND, 74 GND, 75 GND, 76 GND, 77 GND, 78 GND, 79 GND, 80 GND, 81 GND, 82 GND, 83 GND, 84 GND, 85 GND, 86 GND, 87 GND, 88 GND, 89 GND, 90 GND, 91 GND, 92 GND, 93 GND, 94 GND, 95 GND, 96 GND

## SARA-U260
designator *  value SARA-U260  Reference: U
Ublox HSPA GSM Quad-Band Communication Module, AT Command Set, Designed for America, LGA-96; ki_keywords: GSM HSPA 2G 3G; ki_fp_filters: ublox*SARA*; Footprint: RF_GSM:ublox_SARA_LGA-96; Datasheet: https://www.u-blox.com/sites/default/files/SARA-U2_DataSheet_(UBX-13005287).pdf; Description_: Ublox HSPA GSM Quad-Band Communication Module, AT Command Set, Designed for America, LGA-96
pins: 1 GND, 2 V_BCKP, 3 GND, 4 V_INT, 5 GND, 6 DSR, 7 RI, 8 DCD, 9 DTR, 10 RTS, 11 CTS, 12 TXD, 13 RXD, 14 GND, 15 PWR_ON, 16 GPIO1, 17 VUSB_DET, 18 ~{{RESET}}, 19 CODEC_CLK, 20 GND, 21 GND, 22 GND, 23 GPIO2, 24 GPIO3, 25 GPIO4, 26 SDA, 27 SCL, 28 USB_D-, 29 USB_D+, 30 GND, 31 RSVD, 32 GND, 33 RSVD, 34 I2S_WA, 35 I2S_TXD, 36 I2S_CLK, 37 I2S_RXD, 38 SIM_CLK, 39 SIM_IO, 40 SIM_RST, 41 VSIM, 42 SIM_DET, 43 GND, 44 RSVD, 45 RSVD, 46 RSVD, 47 RSVD, 48 RSVD, 49 RSVD, 50 GND, 51 VCC, 52 VCC, 53 VCC, 54 GND, 55 GND, 56 ANT, 57 GND, 58 GND, 59 GND, 60 GND, 61 GND, 62 ANT_DET, 63 GND, 64 GND, 65 GND, 66 GND, 67 GND, 68 GND, 69 GND, 70 GND, 71 GND, 72 GND, 73 GND, 74 GND, 75 GND, 76 GND, 77 GND, 78 GND, 79 GND, 80 GND, 81 GND, 82 GND, 83 GND, 84 GND, 85 GND, 86 GND, 87 GND, 88 GND, 89 GND, 90 GND, 91 GND, 92 GND, 93 GND, 94 GND, 95 GND, 96 GND

## SARA-U270
designator *  value SARA-U270  Reference: U
Ublox HSPA GSM Quad-Band Communication Module, AT Command Set, Designed for Europe, Asia and Others, LGA-96; ki_keywords: GSM HSPA 2G 3G; ki_fp_filters: ublox*SARA*; Footprint: RF_GSM:ublox_SARA_LGA-96; Datasheet: https://www.u-blox.com/sites/default/files/SARA-U2_DataSheet_(UBX-13005287).pdf; Description_: Ublox HSPA GSM Quad-Band Communication Module, AT Command Set, Designed for Europe, Asia and Others, LGA-96
pins: 1 GND, 2 V_BCKP, 3 GND, 4 V_INT, 5 GND, 6 DSR, 7 RI, 8 DCD, 9 DTR, 10 RTS, 11 CTS, 12 TXD, 13 RXD, 14 GND, 15 PWR_ON, 16 GPIO1, 17 VUSB_DET, 18 ~{{RESET}}, 19 CODEC_CLK, 20 GND, 21 GND, 22 GND, 23 GPIO2, 24 GPIO3, 25 GPIO4, 26 SDA, 27 SCL, 28 USB_D-, 29 USB_D+, 30 GND, 31 RSVD, 32 GND, 33 RSVD, 34 I2S_WA, 35 I2S_TXD, 36 I2S_CLK, 37 I2S_RXD, 38 SIM_CLK, 39 SIM_IO, 40 SIM_RST, 41 VSIM, 42 SIM_DET, 43 GND, 44 RSVD, 45 RSVD, 46 RSVD, 47 RSVD, 48 RSVD, 49 RSVD, 50 GND, 51 VCC, 52 VCC, 53 VCC, 54 GND, 55 GND, 56 ANT, 57 GND, 58 GND, 59 GND, 60 GND, 61 GND, 62 ANT_DET, 63 GND, 64 GND, 65 GND, 66 GND, 67 GND, 68 GND, 69 GND, 70 GND, 71 GND, 72 GND, 73 GND, 74 GND, 75 GND, 76 GND, 77 GND, 78 GND, 79 GND, 80 GND, 81 GND, 82 GND, 83 GND, 84 GND, 85 GND, 86 GND, 87 GND, 88 GND, 89 GND, 90 GND, 91 GND, 92 GND, 93 GND, 94 GND, 95 GND, 96 GND

## SARA-U280
designator *  value SARA-U280  Reference: U
Ublox HSPA GSM Quad-Band Communication Module, AT Command Set, Designed for America, LGA-96; ki_keywords: GSM HSPA 2G 3G; ki_fp_filters: ublox*SARA*; Footprint: RF_GSM:ublox_SARA_LGA-96; Datasheet: https://www.u-blox.com/sites/default/files/SARA-U2_DataSheet_(UBX-13005287).pdf; Description_: Ublox HSPA GSM Quad-Band Communication Module, AT Command Set, Designed for America, LGA-96
pins: 1 GND, 2 V_BCKP, 3 GND, 4 V_INT, 5 GND, 6 DSR, 7 RI, 8 DCD, 9 DTR, 10 RTS, 11 CTS, 12 TXD, 13 RXD, 14 GND, 15 PWR_ON, 16 GPIO1, 17 VUSB_DET, 18 ~{{RESET}}, 19 CODEC_CLK, 20 GND, 21 GND, 22 GND, 23 GPIO2, 24 GPIO3, 25 GPIO4, 26 SDA, 27 SCL, 28 USB_D-, 29 USB_D+, 30 GND, 31 RSVD, 32 GND, 33 RSVD, 34 I2S_WA, 35 I2S_TXD, 36 I2S_CLK, 37 I2S_RXD, 38 SIM_CLK, 39 SIM_IO, 40 SIM_RST, 41 VSIM, 42 SIM_DET, 43 GND, 44 RSVD, 45 RSVD, 46 RSVD, 47 RSVD, 48 RSVD, 49 RSVD, 50 GND, 51 VCC, 52 VCC, 53 VCC, 54 GND, 55 GND, 56 ANT, 57 GND, 58 GND, 59 GND, 60 GND, 61 GND, 62 ANT_DET, 63 GND, 64 GND, 65 GND, 66 GND, 67 GND, 68 GND, 69 GND, 70 GND, 71 GND, 72 GND, 73 GND, 74 GND, 75 GND, 76 GND, 77 GND, 78 GND, 79 GND, 80 GND, 81 GND, 82 GND, 83 GND, 84 GND, 85 GND, 86 GND, 87 GND, 88 GND, 89 GND, 90 GND, 91 GND, 92 GND, 93 GND, 94 GND, 95 GND, 96 GND

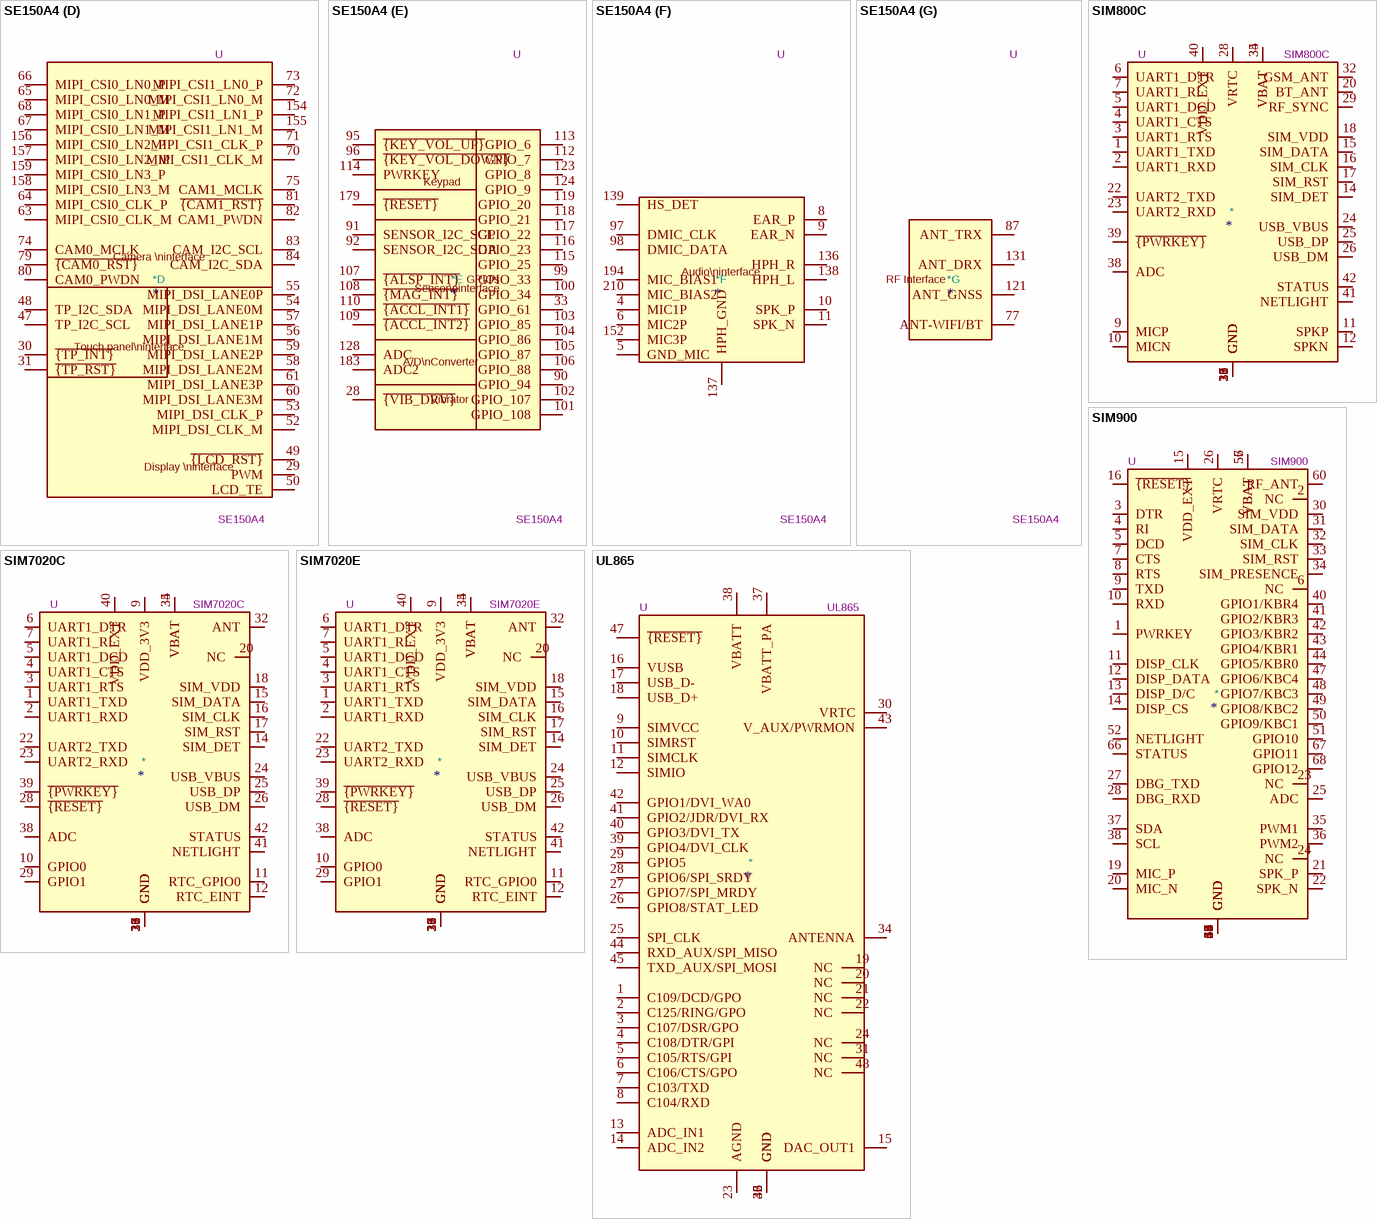
[diagram p2: symbols SE150A4 to UL865]

## SE150A4
designator *  value SE150A4  Reference: U
GSM, WCDMA,LTE, multi-mode and multi-band wireless smart module, 3.4V to 4.4V power supply, 40.5 x 40.5 x 2.8mm; ki_keywords: GPRS LTE WCDMA; ki_fp_filters: *Telit*SE150A4*; Footprint: RF_GSM:Telit_SE150A4; Datasheet: https://atoma.spb.ru/sites/default/files/documents/telit_se150a4_smart_module_hardware_user_guide_r1.pdf; Description_: GSM, WCDMA,LTE, multi-mode and multi-band wireless smart module, 3.4V to 4.4V power supply, 40.5 x 40.5 x 2.8mm
part A pins: 1 VBAT_BB, 2 VBAT_BB, 3 GND, 7 GND, 12 GND, 15 GND, 27 GND, 51 GND, 62 GND, 69 GND, 76 GND, 78 GND, 85 GND, 86 GND, 88 GND, 89 GND, 111 LDO5_1V8, 120 GND, 122 GND, 125 LDO6_1V8, 126 VRTC, 127 CHARGE_SEL, 129 LDO17_2V85, 130 GND, 132 GND, 133 VBAT_SNS, 134 VBAT_THERM, 135 GND, 140 GND, 143 GND, 144 GND, 145 VBAT_RF, 146 VBAT_RF, 147 GND, 148 GND, 149 GND, 150 GND, 151 SMPS_S3_1V35, 153 LDO10_2V85, 160 GND, 161 GND, 162 GND, 163 GND, 164 GND, 165 GND, 166 GND, 167 GND, 168 GND, 169 GND, 170 GND, 171 GND, 172 GND, 173 GND, 174 GND, 175 GND, 176 GND, 177 GND, 178 GND, 180 GND, 181 GND, 182 GND, 184 GND, 185 GND, 186 GND, 187 RESERVED, 188 GND, 189 GND, 190 RESERVED, 191 RESERVED, 192 GND, 193 GND, 195 LDO16_2V85, 196 VREF_BATT_THERM, 197 CHG_RED_LED, 198 GND, 199 RESERVED, 200 GND, 201 GND, 202 RESERVED, 203 RESERVED, 204 RESERVED, 205 RESERVED, 206 RESERVED, 207 RESERVED, 208 GND, 209 GND
part B pins: 13 USB_DM, 14 USB_DP, 16 USB_ID, 32 SD_LDO12, 34 UART1_TXD, 35 UART1_RXD, 36 UART1_CTS, 37 UART1_RTS, 38 SD_LDO11, 39 SD_CLK, 40 SD_CMD, 41 SD_DATA0, 42 SD_DATA1, 43 SD_DATA2, 44 SD_DATA3, 45 SD_DET, 46 USB_BOOT, 93 UART2_RXD, 94 UART2_TXD, 141 USB_VBUS, 142 USB_VBUS
part C pins: 17 USIM2_DET, 18 USIM2_RST, 19 USIM2_CLK, 20 USIM2_DATA, 21 USIM2_VDD, 22 USIM1_DET, 23 USIM1_RST, 24 USIM1_CLK, 25 USIM1_DATA, 26 USIM1_VDD
part D pins: 29 PWM, 30 ~{{TP_INT}}, 31 ~{{TP_RST}}, 47 TP_I2C_SCL, 48 TP_I2C_SDA, 49 ~{{LCD_RST}}, 50 LCD_TE, 52 MIPI_DSI_CLK_M, 53 MIPI_DSI_CLK_P, 54 MIPI_DSI_LANE0M, 55 MIPI_DSI_LANE0P, 56 MIPI_DSI_LANE1M, 57 MIPI_DSI_LANE1P, 58 MIPI_DSI_LANE2M, 59 MIPI_DSI_LANE2P, 60 MIPI_DSI_LANE3M, 61 MIPI_DSI_LANE3P, 63 MIPI_CSI0_CLK_M, 64 MIPI_CSI0_CLK_P, 65 MIPI_CSI0_LN0_M, 66 MIPI_CSI0_LN0_P, 67 MIPI_CSI0_LN1_M, 68 MIPI_CSI0_LN1_P, 70 MIPI_CSI1_CLK_M, 71 MIPI_CSI1_CLK_P, 72 MIPI_CSI1_LN0_M, 73 MIPI_CSI1_LN0_P, 74 CAM0_MCLK, 75 CAM1_MCLK, 79 ~{{CAM0_RST}}, 80 CAM0_PWDN, 81 ~{{CAM1_RST}}, 82 CAM1_PWDN, 83 CAM_I2C_SCL, 84 CAM_I2C_SDA, 154 MIPI_CSI1_LN1_P, 155 MIPI_CSI1_LN1_M, 156 MIPI_CSI0_LN2_P, 157 MIPI_CSI0_LN2_M, 158 MIPI_CSI0_LN3_M, 159 MIPI_CSI0_LN3_P
part E pins: 28 ~{{VIB_DRV}}, 33 GPIO_61, 90 GPIO_94, 91 SENSOR_I2C_SCL, 92 SENSOR_I2C_SDA, 95 ~{{KEY_VOL_UP}}, 96 ~{{KEY_VOL_DOWN}}, 99 GPIO_33, 100 GPIO_34, 101 GPIO_108, 102 GPIO_107, 103 GPIO_85, 104 GPIO_86, 105 GPIO_87, 106 GPIO_88, 107 ~{{ALSP_INT}}, 108 ~{{MAG_INT}}, 109 ~{{ACCL_INT2}}, 110 ~{{ACCL_INT1}}, 112 GPIO_7, 113 GPIO_6, 114 PWRKEY, 115 GPIO_25, 116 GPIO_23, 117 GPIO_22, 118 GPIO_21, 119 GPIO_20, 123 GPIO_8, 124 GPIO_9, 128 ADC, 179 ~{{RESET}}, 183 ADC2
part F pins: 4 MIC1P, 5 GND_MIC, 6 MIC2P, 8 EAR_P, 9 EAR_N, 10 SPK_P, 11 SPK_N, 97 DMIC_CLK, 98 DMIC_DATA, 136 HPH_R, 137 HPH_GND, 138 HPH_L, 139 HS_DET, 152 MIC3P, 194 MIC_BIAS1, 210 MIC_BIAS2
part G pins: 77 ANT-WIFI/BT, 87 ANT_TRX, 121 ANT_GNSS, 131 ANT_DRX
part A text: POWER
part B text: USB; SD Card; UARTs
part C text: SIM Cards
part D text: Camera \ninterface; Touch panel\ninterface; Display \ninterface
part E text: Keypad; GPIOs; Sensor\ninterface; A/D\nConverter; Vibrator
part F text: Audio\ninterface
part G text: RF Interface

## SIM800C
designator *  value SIM800C  Reference: U
GSM Quad-Band Communication Module, GPRS, Audio Engine, AT Command Set, Bluetooth is Optional; ki_keywords: GSM GPRS Quad-Band SMS; ki_fp_filters: SIMCom*SIM800C*; Footprint: RF_GSM:SIMCom_SIM800C; Datasheet: http://simcom.ee/documents/SIM800C/SIM800C_Hardware_Design_V1.05.pdf; Description_: GSM Quad-Band Communication Module, GPRS, Audio Engine, AT Command Set, Bluetooth is Optional
pins: 1 UART1_TXD, 2 UART1_RXD, 3 UART1_RTS, 4 UART1_CTS, 5 UART1_DCD, 6 UART1_DTR, 7 UART1_RI, 8 GND, 9 MICP, 10 MICN, 11 SPKP, 12 SPKN, 13 GND, 14 SIM_DET, 15 SIM_DATA, 16 SIM_CLK, 17 SIM_RST, 18 SIM_VDD, 19 GND, 20 BT_ANT, 21 GND, 22 UART2_TXD, 23 UART2_RXD, 24 USB_VBUS, 25 USB_DP, 26 USB_DM, 27 GND, 28 VRTC, 29 RF_SYNC, 30 GND, 31 GND, 32 GSM_ANT, 33 GND, 34 VBAT, 35 VBAT, 36 GND, 37 GND, 38 ADC, 39 ~{{PWRKEY}}, 40 VDD_EXT, 41 NETLIGHT, 42 STATUS

## SIM900
designator *  value SIM900  Reference: U
GSM Quad-Band Communication Module, GPRS, Audio Engine, AT Command Set; ki_keywords: GSM GPRS Quad-Band SMS FAX; ki_fp_filters: SIMCom*SIM900*; Footprint: RF_GSM:SIMCom_SIM900; Datasheet: http://simcom.ee/documents/SIM900/SIM900_Hardware%20Design_V2.05.pdf; Description_: GSM Quad-Band Communication Module, GPRS, Audio Engine, AT Command Set
pins: 1 PWRKEY, 2 NC, 3 DTR, 4 RI, 5 DCD, 6 NC, 7 CTS, 8 RTS, 9 TXD, 10 RXD, 11 DISP_CLK, 12 DISP_DATA, 13 DISP_D/C, 14 DISP_CS, 15 VDD_EXT, 16 ~{{RESET}}, 17 GND, 18 GND, 19 MIC_P, 20 MIC_N, 21 SPK_P, 22 SPK_N, 23 NC, 24 NC, 25 ADC, 26 VRTC, 27 DBG_TXD, 28 DBG_RXD, 29 GND, 30 SIM_VDD, 31 SIM_DATA, 32 SIM_CLK, 33 SIM_RST, 34 SIM_PRESENCE, 35 PWM1, 36 PWM2, 37 SDA, 38 SCL, 39 GND, 40 GPIO1/KBR4, 41 GPIO2/KBR3, 42 GPIO3/KBR2, 43 GPIO4/KBR1, 44 GPIO5/KBR0, 45 GND, 46 GND, 47 GPIO6/KBC4, 48 GPIO7/KBC3, 49 GPIO8/KBC2, 50 GPIO9/KBC1, 51 GPIO10, 52 NETLIGHT, 53 GND, 54 GND, 55 VBAT, 56 VBAT, 57 VBAT, 58 GND, 59 GND, 60 RF_ANT, 61 GND, 62 GND, 63 GND, 64 GND, 65 GND, 66 STATUS, 67 GPIO11, 68 GPIO12

## SIM7020C
designator *  value SIM7020C  Reference: U
NB-IoT B1/B3/B5/B8, AT Command Set; ki_keywords: NB-IoT Data SMS; ki_fp_filters: SIMCom*SIM800C*; Footprint: RF_GSM:SIMCom_SIM800C; Datasheet: https://simcom.ee/documents/SIM7020/SIM7020%20Hardware%20Design_V1.02.pdf; Description_: NB-IoT B1/B3/B5/B8, AT Command Set
pins: 1 UART1_TXD, 2 UART1_RXD, 3 UART1_RTS, 4 UART1_CTS, 5 UART1_DCD, 6 UART1_DTR, 7 UART1_RI, 8 GND, 9 VDD_3V3, 10 GPIO0, 11 RTC_GPIO0, 12 RTC_EINT, 13 GND, 14 SIM_DET, 15 SIM_DATA, 16 SIM_CLK, 17 SIM_RST, 18 SIM_VDD, 19 GND, 20 NC, 21 GND, 22 UART2_TXD, 23 UART2_RXD, 24 USB_VBUS, 25 USB_DP, 26 USB_DM, 27 GND, 28 ~{{RESET}}, 29 GPIO1, 30 GND, 31 GND, 32 ANT, 33 GND, 34 VBAT, 35 VBAT, 36 GND, 37 GND, 38 ADC, 39 ~{{PWRKEY}}, 40 VDD_EXT, 41 NETLIGHT, 42 STATUS

## SIM7020E
designator *  value SIM7020E  Reference: U
NB-IoT B1/B3/B5/B8/B20/B28, AT Command Set; ki_keywords: NB-IoT Data SMS; ki_fp_filters: SIMCom*SIM800C*; Footprint: RF_GSM:SIMCom_SIM800C; Datasheet: https://simcom.ee/documents/SIM7020/SIM7020%20Hardware%20Design_V1.02.pdf; Description_: NB-IoT B1/B3/B5/B8/B20/B28, AT Command Set
pins: 1 UART1_TXD, 2 UART1_RXD, 3 UART1_RTS, 4 UART1_CTS, 5 UART1_DCD, 6 UART1_DTR, 7 UART1_RI, 8 GND, 9 VDD_3V3, 10 GPIO0, 11 RTC_GPIO0, 12 RTC_EINT, 13 GND, 14 SIM_DET, 15 SIM_DATA, 16 SIM_CLK, 17 SIM_RST, 18 SIM_VDD, 19 GND, 20 NC, 21 GND, 22 UART2_TXD, 23 UART2_RXD, 24 USB_VBUS, 25 USB_DP, 26 USB_DM, 27 GND, 28 ~{{RESET}}, 29 GPIO1, 30 GND, 31 GND, 32 ANT, 33 GND, 34 VBAT, 35 VBAT, 36 GND, 37 GND, 38 ADC, 39 ~{{PWRKEY}}, 40 VDD_EXT, 41 NETLIGHT, 42 STATUS

## UL865
designator *  value UL865  Reference: U
Telit 3G Module (GSM/GPRS/UMTS/HSPA), 3.8V, Digital voice and SMS, I2S, USB 2.0, UART, SPI. Manufacturer package; ki_keywords: gsm 3g gprs umts hspa; ki_fp_filters: *Telit*xL865*; Footprint: RF_GSM:Telit_xL865; Datasheet: http://www.telit.com/fileadmin/user_upload/products/Downloads/3G/Telit_UL865_Hardware_User_Guide_r8.pdf; Description_: Telit 3G Module (GSM/GPRS/UMTS/HSPA), 3.8V, Digital voice and SMS, I2S, USB 2.0, UART, SPI. Manufacturer package
pins: 1 C109/DCD/GPO, 2 C125/RING/GPO, 3 C107/DSR/GPO, 4 C108/DTR/GPI, 5 C105/RTS/GPI, 6 C106/CTS/GPO, 7 C103/TXD, 8 C104/RXD, 9 SIMVCC, 10 SIMRST, 11 SIMCLK, 12 SIMIO, 13 ADC_IN1, 14 ADC_IN2, 15 DAC_OUT1, 16 VUSB, 17 USB_D-, 18 USB_D+, 19 NC, 20 NC, 21 NC, 22 NC, 23 AGND, 24 NC, 25 SPI_CLK, 26 GPIO8/STAT_LED, 27 GPIO7/SPI_MRDY, 28 GPIO6/SPI_SRDY, 29 GPIO5, 30 VRTC, 31 NC, 32 GND, 33 GND, 34 ANTENNA, 35 GND, 36 GND, 37 VBATT_PA, 38 VBATT, 39 GPIO4/DVI_CLK, 40 GPIO3/DVI_TX, 41 GPIO2/JDR/DVI_RX, 42 GPIO1/DVI_WA0, 43 V_AUX/PWRMON, 44 RXD_AUX/SPI_MISO, 45 TXD_AUX/SPI_MOSI, 46 GND, 47 ~{{RESET}}, 48 NC